# Altium integrated library IRF7424.IntLib: 1 symbol
Pins are listed as number, name and electrical type; pins without a type are passive.

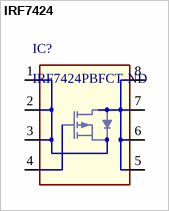
[diagram p0: symbol IRF7424]

## IRF7424
designator IC?, comment IRF7424PBFCT-ND
ID: IRF7424PBFCT-ND; PRICE: 1.62000; BUY_LINK: http://www.digikey.com/product-detail/en/IRF7807ZTRPBF/IRF7807ZPBFCT-ND/827827; PDF: http://www.digikey.com/product-detail/en/IRF7424TRPBF/IRF7424PBFCT-ND/827884
footprint SO8
pins: 1 S, 2 S, 3 S, 4 G, 5 D, 6 D, 7 D, 8 D